# EAGLE library part LT1990 (library alvie)
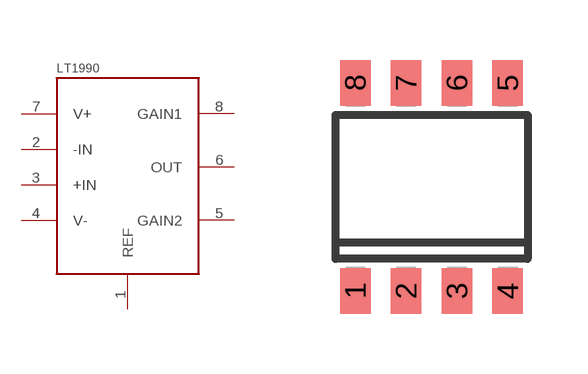
[diagram p8: symbol with the pads of S8; footprint S8]

Designator prefix -

## LT1990  [S8]
1  REF  pas
2  -IN  pas
3  +IN  pas
4  V-  pwr
5  GAIN2  pas
6  OUT  pas
7  V+  pwr
8  GAIN1  pas

## Footprint S8 (pad centres in mm)
smd 0.762 x 1.143: 1 -1.905,-2.6; 2 -0.635,-2.6; 3 0.635,-2.6; 4 1.905,-2.6; 5 1.905,2.6; 6 0.635,2.6; 7 -0.635,2.6; 8 -1.905,2.6